# EAGLE library part TPS54622 (library My_TI)
TPS54622 4.5-V to 17-V Input, 6-A Synchronous Step-Down SWIFT™ Converter With Hiccup Protection. • 200-kHz to 1.6-MHz Switching Frequency. • –40°C to 150°C Operating Junction Temperature Range. • Adjustable Slow Start and Power Sequencing. Datasheet <http://www.ti.com/lit/ds/symlink/tps54622.pdf>
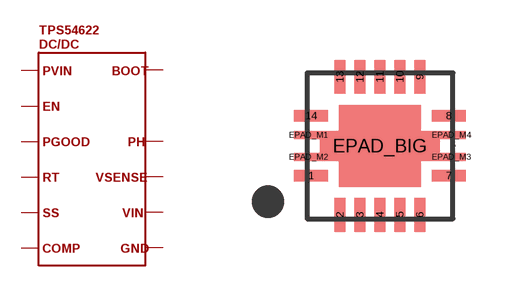
[diagram p33: symbol with the pads of VQFN-14_PWR; footprint VQFN-14_PWR]

Designator prefix DC/DC

## TPS54622  [VQFN-14_PWR]
1  4
2  7
3  7
4  1
5  1
6  8
7  9
8  6
9  5
10  2
11  10
12  10
13  11
14  3
EPAD_BIG  7
EPAD_M1  7
EPAD_M2  7
EPAD_M3  7
EPAD_M4  7

## Footprint VQFN-14_PWR (pad centres in mm)
smd 0.85 x 0.28: 1 -1.725,-0.75; 7 1.725,-0.75; 8 1.725,0.75; 14 -1.725,0.75
smd 0.28 x 0.85: 2 -1,-1.725; 3 -0.5,-1.725; 4 0,-1.725; 5 0.5,-1.725; 6 1,-1.725; 9 1,1.725; 10 0.5,1.725; 11 0,1.725; 12 -0.5,1.725; 13 -1,1.725
smd 2.05 x 2.05: EPAD_BIG 0,0
smd 0.725 x 0.2: EPAD_M1 -1.788,0.275; EPAD_M2 -1.788,-0.275; EPAD_M3 1.788,-0.275; EPAD_M4 1.788,0.275